# EAGLE library part ADNS-2080 (library pixhawk2)
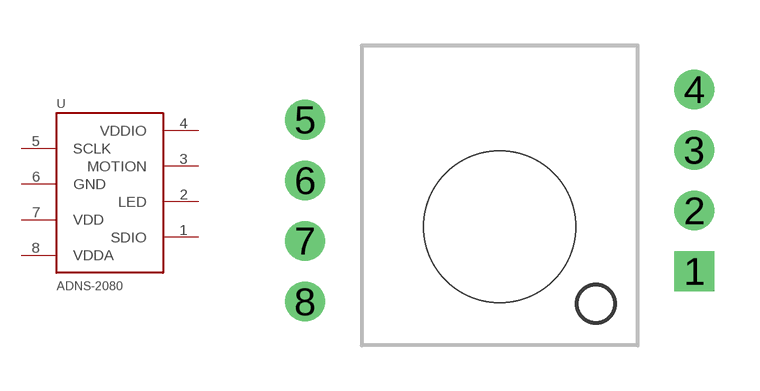
[diagram p33: symbol with the pads of ADNS-2080; footprint ADNS-2080]

Designator prefix -

## ADNS-2080  [ADNS-2080]
1  SDIO
2  LED  in
3  MOTION  out
4  VDDIO  in
5  SCLK  in
6  GND  in
7  VDD  out
8  VDDA  in

## Footprint ADNS-2080 (pad centres in mm)
drill 0.8 square: 1 6.425,-1.47
drill 0.8 round: 2 6.425,0.53; 3 6.425,2.53; 4 6.425,4.53; 5 -6.425,3.53; 6 -6.425,1.53; 7 -6.425,-0.47; 8 -6.425,-2.47
hole 5 at 0,0